# EAGLE library part BNO055 (library quad)
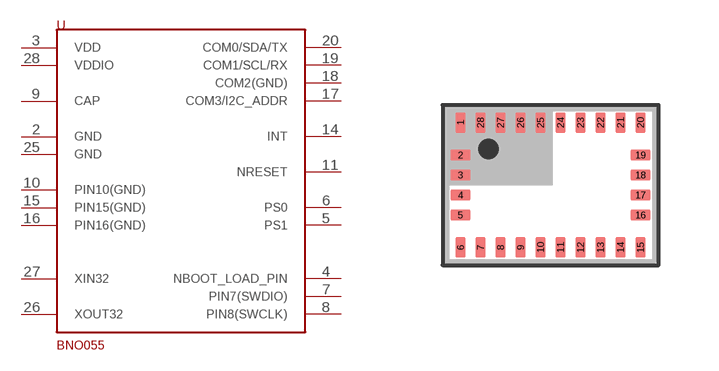
[diagram p8: symbol with the pads of LGA-28_3.80X5.20/0.5; footprint LGA-28_3.80X5.20/0.5]

Designator prefix -

## BNO055  [LGA-28_3.80X5.20/0.5]
2  2
3  3
4  4
5  5
6  6
7  7
8  8
9  9
10  10
11  11
14  14
15  15
16  16
17  17
18  18
19  19
20  20
25  25
26  26
27  27
28  28

## Footprint LGA-28_3.80X5.20/0.5 (pad centres in mm)
smd 0.25 x 0.5: 1 -2.25,1.56; 6 -2.25,-1.56; 7 -1.75,-1.56; 8 -1.25,-1.56; 9 -0.75,-1.56; 10 -0.25,-1.56; 11 0.25,-1.56; 12 0.75,-1.56; 13 1.25,-1.56; 14 1.75,-1.56; 15 2.25,-1.56; 20 2.25,1.56; 21 1.75,1.56; 22 1.25,1.56; 23 0.75,1.56; 24 0.25,1.56; 25 -0.25,1.56; 26 -0.75,1.56; 27 -1.25,1.56; 28 -1.75,1.56
smd 0.5 x 0.25: 2 -2.25,0.75; 3 -2.25,0.25; 4 -2.25,-0.25; 5 -2.25,-0.75; 16 2.25,-0.75; 17 2.25,-0.25; 18 2.25,0.25; 19 2.25,0.75